# Altium footprint library Delevan.PcbLib: 1 footprints
Each footprint in its own frame and in the unit in brackets; x right, y up, seen from the top. Pads: shape width x height; smd on the part's side, far side on the other; paste and mask are expansions set on the pad; w line width, h text height; cw(c..) or ccw(c..) is an arc to the next point about the centre after c.
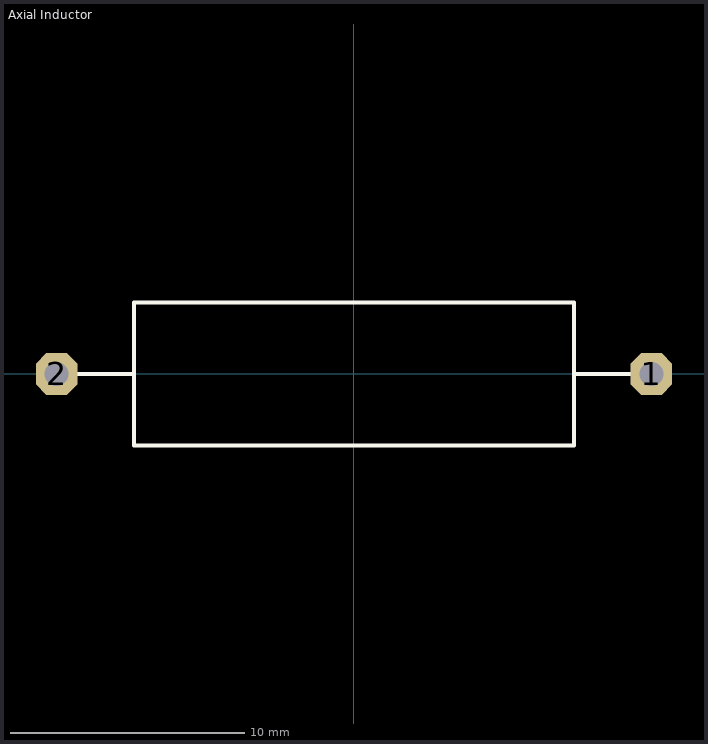
[diagram p0: the footprint, top view; thin cyan lines are the x and y axes]

## Axial Inductor [mil]
pads (2):
  oct 70x70 hole 40: 1(500,0) 2(-500,0)
Top Overlay:
  lines w7: -500,0 -370,0 ; 370,0 500,0 ; -370,-120 370,-120 370,120 -370,120 -370,-120
3D body: height 239.05, standoff 0, extent -370,-120 370,119.53